# Altium schematic symbol library SB34AFC.SchLib: 1 symbol
Pins are listed as number, name and electrical type; pins without a type are passive.

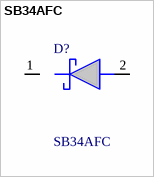
[diagram p0: symbol SB34AFC]

## SB34AFC
designator D?
Power Schottky (IF1A) - SB34AFC , Standard, 40V, 3A, SMAF-C; Manufacturer_Name: PANJIT; Geometry.Height: 1.1mm; Manufacturer_Part_Number: SB34AFC; Mouser Part Number: *; Mouser Price/Stock: *; Arrow Part Number: *; Arrow Price/Stock: *; Datasheet Link: https://www.panjit.com.tw/en/Product/downloadPDF/SB34AFC
footprint SODFL4725X110N
pins: 1 K, 2 A